# Altium footprint library MyLibrary.PcbLib: 365 footprints (part 2 of 23)
Each footprint in its own frame and in the unit in brackets; x right, y up, seen from the top. Pads: shape width x height; smd on the part's side, far side on the other; paste and mask are expansions set on the pad; w line width, h text height; cw(c..) or ccw(c..) is an arc to the next point about the centre after c.
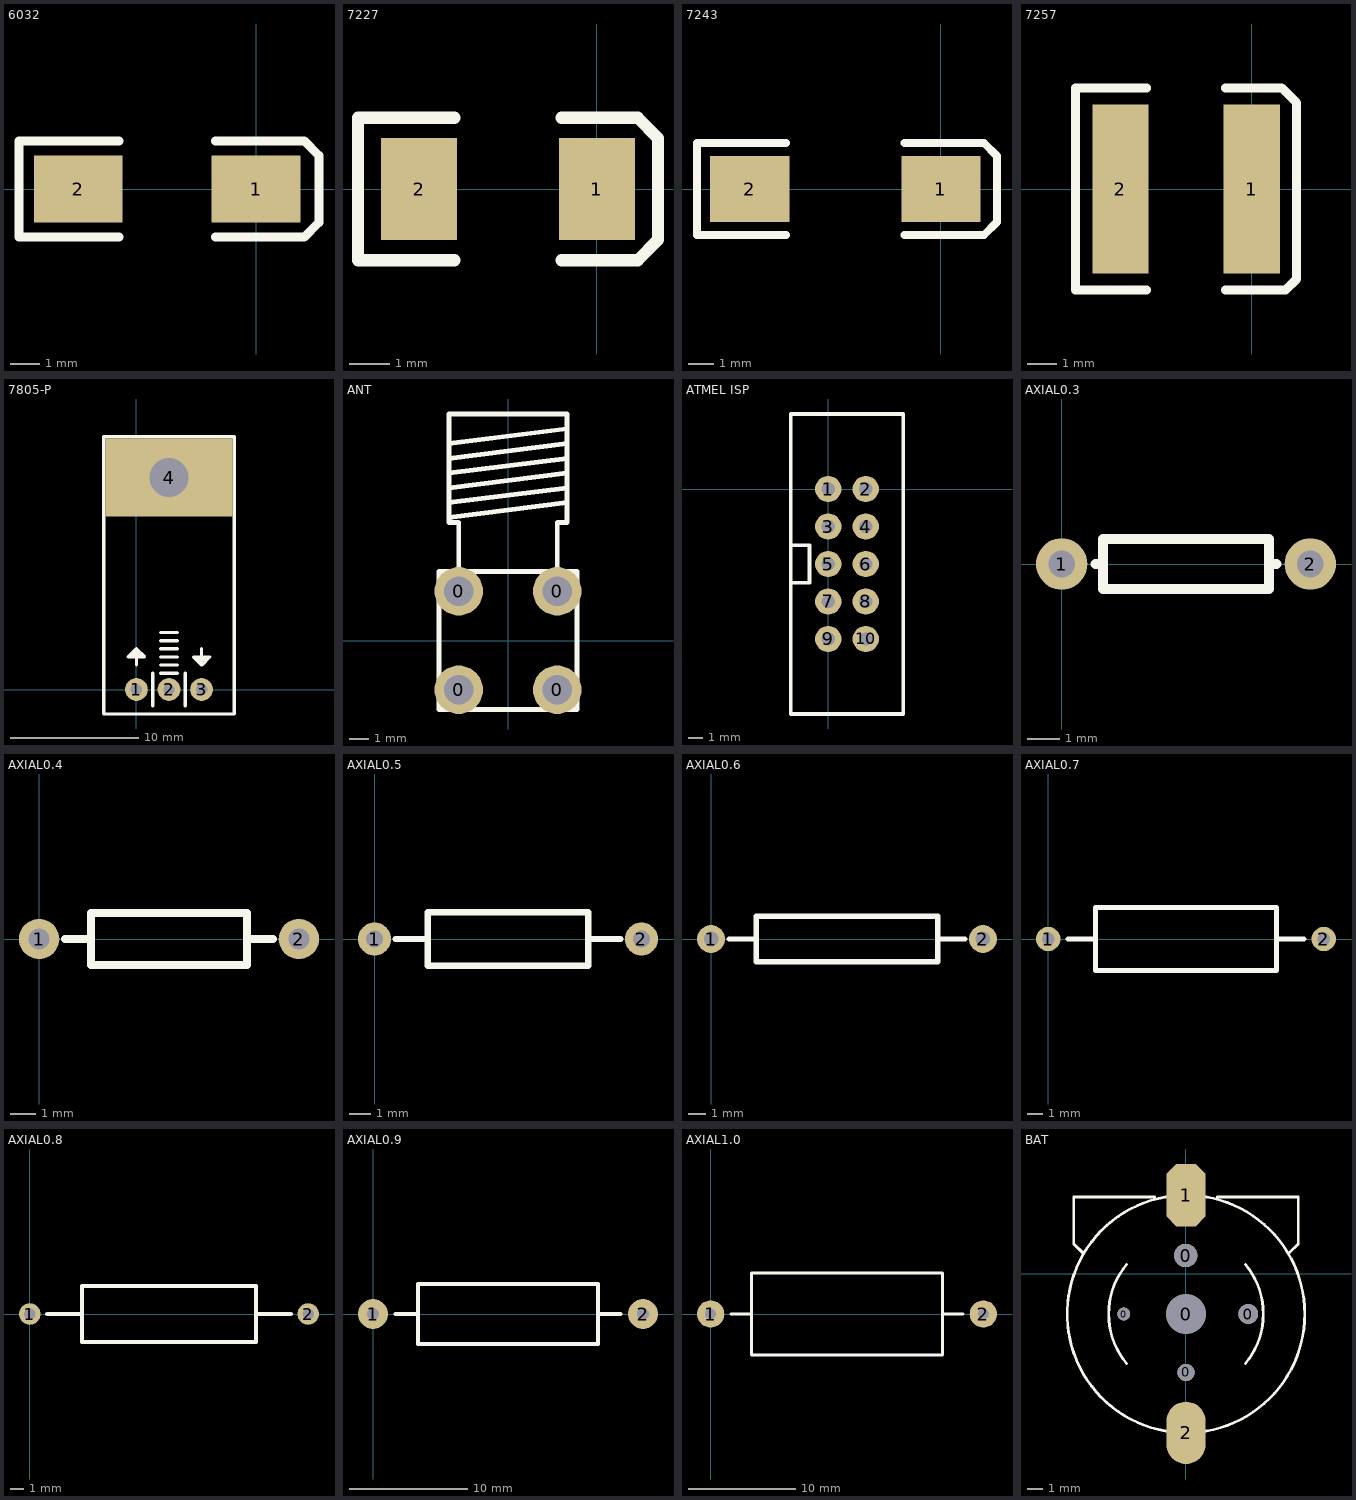
[diagram p1: the footprints below, top view; thin cyan lines are the x and y axes]

## 6032 [mil]
pads (2):
  rect 120x90 smd: 1(0,0) 2(-240,0)
Top Overlay:
  lines w12: -185,-65 -320,-65 -320,65 -185,65 ; -55,-65 65,-65 85,-45 85,45 65,65 -55,65

## 7227 [mil]
pads (2):
  rect 75x100 smd: 1(0,0) 2(-175,0)
Top Overlay:
  lines w12: -140,-70 -235,-70 -235,70 -140,70 ; -35,-70 40,-70 60,-50 60,50 40,70 -35,70

## 7243 [mil]
pads (2):
  rect 120x100 smd: 1(0,0) 2(-290,0)
Top Overlay:
  lines w12: -235,-70 -370,-70 -370,70 -235,70 ; -55,-70 65,-70 85,-50 85,50 65,70 -55,70

## 7257 [mil]
pads (2):
  rect 75x225 smd: 1(0,0) 2(-175,0)
Top Overlay:
  lines w12: -140,-135 -235,-135 -235,135 -140,135 ; -35,-135 45,-135 60,-120 60,115 40,135 -35,135

## 7805-P [mil]
pads (4):
  round 70 hole 35: 1(0,0) 2(100,0) 3(200,0)
  rect 390x240 hole 120: 4(100,650)
Top Overlay:
  rectangle: -15,100 0,115
  rectangle: 0,100 15,115
  rectangle: 185,87.5 212.5,100
  lines w10: 0,75 0,125 ; 50,-50 50,50 ; 75,50 125,50 ; 75,75 125,75 ; 75,100 125,100 ; 75,125 125,125 ; 75,150 125,150 ; 75,175 125,175 ; 150,-50 150,50 ; 200,125 200,75 ; 0,125 25,100 -25,100 0,125 ; 200,75 225,100 175,100 200,75 ; -100,-75 300,-75 300,775 -100,775 -100,-75

## ANT [mm]
pads (4):
  round 2.5 hole 1.5: 0(-2.54,-2.54) 0(-2.54,2.54) 0(2.54,-2.54) 0(2.54,2.54)
Top Overlay:
  lines w0.254: -3.048,6.35 3.048,7.112 ; -3.048,7.112 3.048,7.874 ; -3.048,7.874 3.048,8.636 ; -3.048,8.636 3.048,9.398 ; -3.048,9.398 3.048,10.16 ; -3.048,10.16 3.048,10.922 ; -2.54,3.556 -2.54,6.096 -3.048,6.096 -3.048,11.684 3.048,11.684 3.048,6.096 2.54,6.096 2.54,3.556 ; -3.556,-3.556 3.556,-3.556 3.556,3.556 -3.556,3.556 -3.556,-3.556

## ATMEL ISP [mil]
pads (10):
  round 70 hole 35: 1(0,0) 2(100,0) 3(0,-100) 4(100,-100) 5(0,-200) 6(100,-200) 7(0,-300) 8(100,-300) 9(0,-400) 10(100,-400)
Top Overlay:
  lines w10: -100,-250 -50,-250 -50,-150 -100,-150 ; -100,-600 200,-600 200,200 -100,200 -100,0 -100,-400 -100,-600

## AXIAL0.3 [mil]
pads (2):
  round 62 hole 32: 1(0,0) 2(300,0)
Top Overlay:
  lines w12: 41,0 50,0 ; 259,0 250,0 ; 250,0 250,-30 50,-30 50,30 250,30 250,0

## AXIAL0.4 [mil]
pads (2):
  round 62 hole 32: 1(0,0) 2(400,0)
Top Overlay:
  lines w12: 40,0 80,0 ; 320,0 360,0 ; 80,-40 320,-40 320,40 80,40 80,-40

## AXIAL0.5 [mil]
pads (2):
  round 62 hole 32: 1(0,0) 2(500,0)
Top Overlay:
  lines w12: 40,0 100,0 ; 400,0 460,0 ; 100,-50 100,50 400,50 400,-50 100,-50

## AXIAL0.6 [mil]
pads (2):
  round 62 hole 32: 1(0,0) 2(600,0)
Top Overlay:
  lines w12: 40,0 100,0 ; 500,0 560,0 ; 100,-50 500,-50 500,50 100,50 100,-50

## AXIAL0.7 [mil]
pads (2):
  round 62 hole 32: 1(0,0) 2(700,0)
Top Overlay:
  lines w12: 50,0 120,0 ; 580,0 650,0 ; 120,-80 120,80 580,80 580,-80 120,-80

## AXIAL0.8 [mil]
pads (2):
  round 62 hole 32: 1(0,0) 2(800,0)
Top Overlay:
  lines w12: 50,0 150,0 ; 650,0 750,0 ; 150,-80 650,-80 650,80 150,80 150,-80

## AXIAL0.9 [mil]
pads (2):
  round 100 hole 40: 1(0,0) 2(900,0)
Top Overlay:
  lines w12: 75,0 150,0 ; 750,0 825,0 ; 150,-100 150,100 750,100 750,-100 150,-100

## AXIAL1.0 [mil]
pads (2):
  round 100 hole 40: 1(0,0) 2(1000,0)
Top Overlay:
  lines w12: 75,0 150,0 ; 850,0 925,0 ; 150,-150 150,150 850,150 850,-150 150,-150

## BAT [mm]
pads (7):
  round 0.813 hole 0.813: 0(-3.979,-2.576)
  round 1.5 hole 1.5: 0(-0.016,1.174)
  round 1.1 hole 1.1: 0(0.009,-6.326)
  round 2.54 hole 2.54: 0(0.009,-2.576)
  round 1.27 hole 1.27: 0(3.997,-2.576)
  oct 2.5x4 smd: 1(0.009,5.044)
  oval 2.5x4 smd: 2(0.009,-10.196)
Top Overlay:
  lines w0.178: -6.616,1.349 -7.191,1.924 -7.191,4.924 -1.991,4.924 ; -3.803,-5.748 cw(c0.009,-2.576) -3.801,0.599 ; -0.824,-10.15 cw(c0.009,-2.576) -0.824,4.999 ; 0.842,-10.15 ccw(c0.009,-2.576) 7.629,-2.576 ccw(c0.009,-2.576) 0.842,4.999 ; 2.009,4.924 7.209,4.924 7.209,1.924 6.609,1.324 ; 3.821,-5.748 ccw(c0.009,-2.576) 3.824,0.594